# EAGLE library part ADUC845 (library ADuC845)
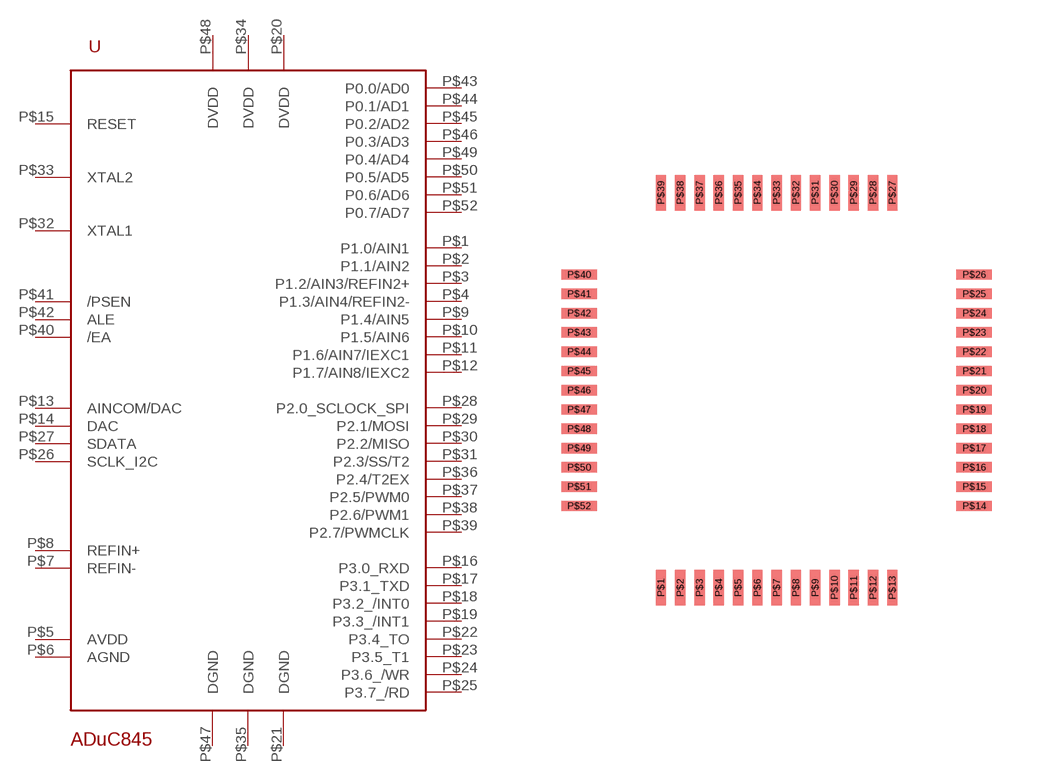
[diagram p0: symbol with the pads of MQFP52; footprint MQFP52]

Designator prefix -

## ADUC845  [MQFP52]
P$1  P1.0/AIN1
P$2  P1.1/AIN2
P$3  P1.2/AIN3/REFIN2+
P$4  P1.3/AIN4/REFIN2-
P$5  AVDD
P$6  AGND
P$7  REFIN-
P$8  REFIN+
P$9  P1.4/AIN5
P$10  P1.5/AIN6
P$11  P1.6/AIN7/IEXC1
P$12  P1.7/AIN8/IEXC2
P$13  AINCOM/DAC
P$14  DAC
P$15  RESET
P$16  P3.0_RXD
P$17  P3.1_TXD
P$18  P3.2_/INT0
P$19  P3.3_/INT1
P$20  DVDD
P$21  DGND
P$22  P3.4_TO
P$23  P3.5_T1
P$24  P3.6_/WR
P$25  P3.7_/RD
P$26  SCLK_I2C
P$27  SDATA
P$28  P2.0_SCLOCK_SPI
P$29  P2.1/MOSI
P$30  P2.2/MISO
P$31  P2.3/SS/T2
P$32  XTAL1
P$33  XTAL2
P$34  DVDD
P$35  DGND
P$36  P2.4/T2EX
P$37  P2.5/PWM0
P$38  P2.6/PWM1
P$39  P2.7/PWMCLK
P$40  /EA
P$41  /PSEN
P$42  ALE
P$43  P0.0/AD0
P$44  P0.1/AD1
P$45  P0.2/AD2
P$46  P0.3/AD3
P$47  DGND
P$48  DVDD
P$49  P0.4/AD4
P$50  P0.5/AD5
P$51  P0.6/AD6
P$52  P0.7/AD7

## Footprint MQFP52 (pad centres in mm)
smd 0.35 x 1.2: P$1 -3.9,-6.662; P$2 -3.25,-6.662; P$3 -2.6,-6.662; P$4 -1.95,-6.662; P$5 -1.3,-6.662; P$6 -0.65,-6.662; P$7 0,-6.662; P$8 0.65,-6.662; P$9 1.3,-6.662; P$10 1.95,-6.662; P$11 2.6,-6.662; P$12 3.25,-6.662; P$13 3.9,-6.662; P$27 3.9,6.662; P$28 3.25,6.662; P$29 2.6,6.662; P$30 1.95,6.662; P$31 1.3,6.662; P$32 0.65,6.662; P$33 0,6.662; P$34 -0.65,6.662; P$35 -1.3,6.662; P$36 -1.95,6.662; P$37 -2.6,6.662; P$38 -3.25,6.662; P$39 -3.9,6.662
smd 1.2 x 0.35: P$14 6.662,-3.9; P$15 6.662,-3.25; P$16 6.662,-2.6; P$17 6.662,-1.95; P$18 6.662,-1.3; P$19 6.662,-0.65; P$20 6.662,0; P$21 6.662,0.65; P$22 6.662,1.3; P$23 6.662,1.95; P$24 6.662,2.6; P$25 6.662,3.25; P$26 6.662,3.9; P$40 -6.662,3.9; P$41 -6.662,3.25; P$42 -6.662,2.6; P$43 -6.662,1.95; P$44 -6.662,1.3; P$45 -6.662,0.65; P$46 -6.662,0; P$47 -6.662,-0.65; P$48 -6.662,-1.3; P$49 -6.662,-1.95; P$50 -6.662,-2.6; P$51 -6.662,-3.25; P$52 -6.662,-3.9